# EAGLE library part PIC16F1619-X/P (library pic16f1619)
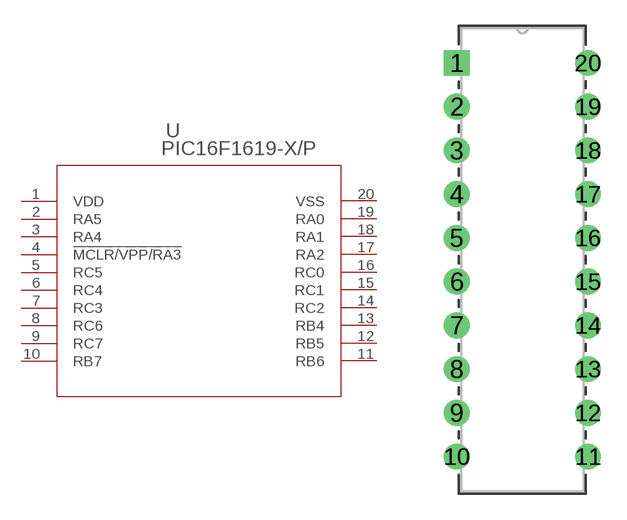
[diagram p0: symbol with the pads of PDIP20_300MC; footprint PDIP20_300MC]

Designator prefix U

## PIC16F1619-X/P (MANUFACTURER_PART_NUMBER: pic16f1619xp; VENDOR: Microchip)  [PDIP20_300MC]
1  VDD  pwr
2  RA5
3  RA4
4  !MCLR/VPP/RA3
5  RC5
6  RC4
7  RC3
8  RC6
9  RC7
10  RB7
11  RB6
12  RB5
13  RB4
14  RC2
15  RC1
16  RC0
17  RA2
18  RA1
19  RA0
20  VSS  pwr

## Footprint PDIP20_300MC (pad centres in mm)
drill 0.991 pad 1.499 square: 1 -7.62,22.86
drill 0.991 pad 1.499: 2 -7.62,20.32; 3 -7.62,17.78; 4 -7.62,15.24; 5 -7.62,12.7; 6 -7.62,10.16; 7 -7.62,7.62; 8 -7.62,5.08; 9 -7.62,2.54; 10 -7.62,0; 11 0,0; 12 0,2.54; 13 0,5.08; 14 0,7.62; 15 0,10.16; 16 0,12.7; 17 0,15.24; 18 0,17.78; 19 0,20.32; 20 0,22.86